# Altium integrated library ALTIUM-WCAP-PSHP-rev17b.IntLib: 54 symbols
Pins are listed as number, name and electrical type; pins without a type are passive.

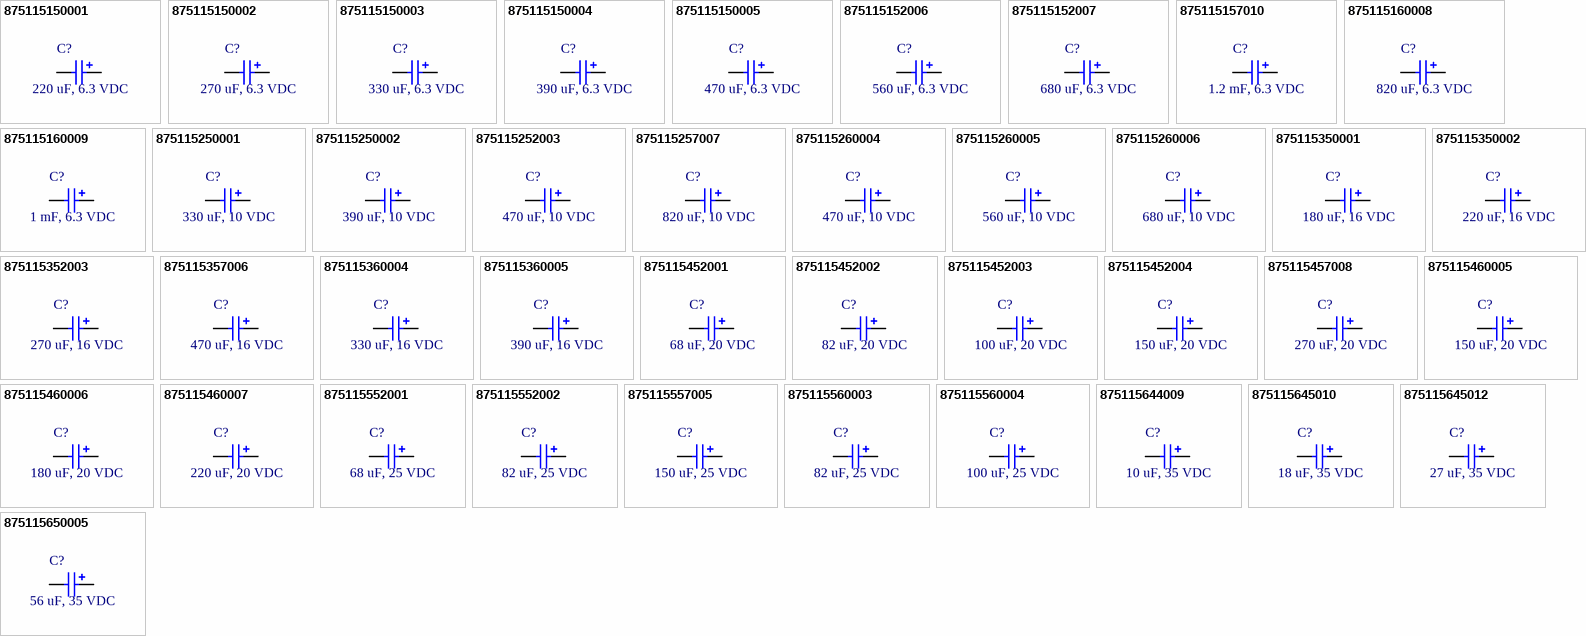
[diagram p0: symbols 875115150001 to 875115650005]

## 875115150001
designator C?, comment 220 uF, 6.3 VDC
WCAP-PSHP Aluminum Polymer Capacitors, D8mm x L7.7mm, 220 uF, 6.3 VDC; Part Number: 875115150001; Rated Voltage: 6.3 VDC; Capacitance: 220 uF; ComponentLink1Description: Manufacturer; ComponentLink1URL: http://www.we-online.de; ComponentLink2Description: Datasheet; ComponentLink2URL: http://katalog.we-online.de/pbs/datasheet/875115150001.pdf; Published Date: Dec. 2017; Publisher: Wurth Elektronik; Size: D8mm x L7.7mm; Life Cycle: 2000 h; Operating Temperature: -55 to +105 degC
footprint WCAP-PSHP_D8mm x L7.7mm
pins: 1 P, 2 N

## 875115150002
designator C?, comment 270 uF, 6.3 VDC
WCAP-PSHP Aluminum Polymer Capacitors, D8mm x L7.7mm, 270 uF, 6.3 VDC; Part Number: 875115150002; Rated Voltage: 6.3 VDC; Capacitance: 270 uF; ComponentLink1Description: Manufacturer; ComponentLink1URL: http://www.we-online.de; ComponentLink2Description: Datasheet; ComponentLink2URL: http://katalog.we-online.de/pbs/datasheet/875115150002.pdf; Published Date: Dec. 2017; Publisher: Wurth Elektronik; Size: D8mm x L7.7mm; Life Cycle: 2000 h; Operating Temperature: -55 to +105 degC
footprint WCAP-PSHP_D8mm x L7.7mm
pins: 1 P, 2 N

## 875115150003
designator C?, comment 330 uF, 6.3 VDC
WCAP-PSHP Aluminum Polymer Capacitors, D8mm x L7.7mm, 330 uF, 6.3 VDC; Part Number: 875115150003; Rated Voltage: 6.3 VDC; Capacitance: 330 uF; ComponentLink1Description: Manufacturer; ComponentLink1URL: http://www.we-online.de; ComponentLink2Description: Datasheet; ComponentLink2URL: http://katalog.we-online.de/pbs/datasheet/875115150003.pdf; Published Date: Dec. 2017; Publisher: Wurth Elektronik; Size: D8mm x L7.7mm; Life Cycle: 2000 h; Operating Temperature: -55 to +105 degC
footprint WCAP-PSHP_D8mm x L7.7mm
pins: 1 P, 2 N

## 875115150004
designator C?, comment 390 uF, 6.3 VDC
WCAP-PSHP Aluminum Polymer Capacitors, D8mm x L7.7mm, 390 uF, 6.3 VDC; Part Number: 875115150004; Rated Voltage: 6.3 VDC; Capacitance: 390 uF; ComponentLink1Description: Manufacturer; ComponentLink1URL: http://www.we-online.de; ComponentLink2Description: Datasheet; ComponentLink2URL: http://katalog.we-online.de/pbs/datasheet/875115150004.pdf; Published Date: Dec. 2017; Publisher: Wurth Elektronik; Size: D8mm x L7.7mm; Life Cycle: 2000 h; Operating Temperature: -55 to +105 degC
footprint WCAP-PSHP_D8mm x L7.7mm
pins: 1 P, 2 N

## 875115150005
designator C?, comment 470 uF, 6.3 VDC
WCAP-PSHP Aluminum Polymer Capacitors, D8mm x L7.7mm, 470 uF, 6.3 VDC; Part Number: 875115150005; Rated Voltage: 6.3 VDC; Capacitance: 470 uF; ComponentLink1Description: Manufacturer; ComponentLink1URL: http://www.we-online.de; ComponentLink2Description: Datasheet; ComponentLink2URL: http://katalog.we-online.de/pbs/datasheet/875115150005.pdf; Published Date: Dec. 2017; Publisher: Wurth Elektronik; Size: D8mm x L7.7mm; Life Cycle: 2000 h; Operating Temperature: -55 to +105 degC
footprint WCAP-PSHP_D8mm x L7.7mm
pins: 1 P, 2 N

## 875115152006
designator C?, comment 560 uF, 6.3 VDC
WCAP-PSHP Aluminum Polymer Capacitors, D8mm x L8.7mm, 560 uF, 6.3 VDC; Part Number: 875115152006; Rated Voltage: 6.3 VDC; Capacitance: 560 uF; ComponentLink1Description: Manufacturer; ComponentLink1URL: http://www.we-online.de; ComponentLink2Description: Datasheet; ComponentLink2URL: http://katalog.we-online.de/pbs/datasheet/875115152006.pdf; Published Date: Dec. 2017; Publisher: Wurth Elektronik; Size: D8mm x L8.7mm; Life Cycle: 2000 h; Operating Temperature: -55 to +105 degC
footprint WCAP-PSHP_D8mm x L8.7mm
pins: 1 P, 2 N

## 875115152007
designator C?, comment 680 uF, 6.3 VDC
WCAP-PSHP Aluminum Polymer Capacitors, D8mm x L8.7mm, 680 uF, 6.3 VDC; Part Number: 875115152007; Rated Voltage: 6.3 VDC; Capacitance: 680 uF; ComponentLink1Description: Manufacturer; ComponentLink1URL: http://www.we-online.de; ComponentLink2Description: Datasheet; ComponentLink2URL: http://katalog.we-online.de/pbs/datasheet/875115152007.pdf; Published Date: Dec. 2017; Publisher: Wurth Elektronik; Size: D8mm x L8.7mm; Life Cycle: 2000 h; Operating Temperature: -55 to +105 degC
footprint WCAP-PSHP_D8mm x L8.7mm
pins: 1 P, 2 N

## 875115157010
designator C?, comment 1.2 mF, 6.3 VDC
WCAP-PSHP Aluminum Polymer Capacitors, D10mm x L10.5mm, 1.2 mF, 6.3 VDC; Part Number: 875115157010; Rated Voltage: 6.3 VDC; Capacitance: 1.2 mF; ComponentLink1Description: Manufacturer; ComponentLink1URL: http://www.we-online.de; ComponentLink2Description: Datasheet; ComponentLink2URL: http://katalog.we-online.de/pbs/datasheet/875115157010.pdf; Published Date: Dec. 2017; Publisher: Wurth Elektronik; Size: D10mm x L10.5mm; Life Cycle: 2000 h; Operating Temperature: -55 to +105 degC
footprint WCAP-PSHP_D10mm x L10.5mm
pins: 1 P, 2 N

## 875115160008
designator C?, comment 820 uF, 6.3 VDC
WCAP-PSHP Aluminum Polymer Capacitors, D10mm x L8.7mm, 820 uF, 6.3 VDC; Part Number: 875115160008; Rated Voltage: 6.3 VDC; Capacitance: 820 uF; ComponentLink1Description: Manufacturer; ComponentLink1URL: http://www.we-online.de; ComponentLink2Description: Datasheet; ComponentLink2URL: http://katalog.we-online.de/pbs/datasheet/875115160008.pdf; Published Date: Dec. 2017; Publisher: Wurth Elektronik; Size: D10mm x L8.7mm; Life Cycle: 2000 h; Operating Temperature: -55 to +105 degC
footprint WCAP-PSHP_D10mm x L8.7mm
pins: 1 P, 2 N

## 875115160009
designator C?, comment 1 mF, 6.3 VDC
WCAP-PSHP Aluminum Polymer Capacitors, D10mm x L8.7mm, 1 mF, 6.3 VDC; Part Number: 875115160009; Rated Voltage: 6.3 VDC; Capacitance: 1 mF; ComponentLink1Description: Manufacturer; ComponentLink1URL: http://www.we-online.de; ComponentLink2Description: Datasheet; ComponentLink2URL: http://katalog.we-online.de/pbs/datasheet/875115160009.pdf; Published Date: Dec. 2017; Publisher: Wurth Elektronik; Size: D10mm x L8.7mm; Life Cycle: 2000 h; Operating Temperature: -55 to +105 degC
footprint WCAP-PSHP_D10mm x L8.7mm
pins: 1 P, 2 N

## 875115250001
designator C?, comment 330 uF, 10 VDC
WCAP-PSHP Aluminum Polymer Capacitors, D8mm x L7.7mm, 330 uF, 10 VDC; Part Number: 875115250001; Rated Voltage: 10 VDC; Capacitance: 330 uF; ComponentLink1Description: Manufacturer; ComponentLink1URL: http://www.we-online.de; ComponentLink2Description: Datasheet; ComponentLink2URL: http://katalog.we-online.de/pbs/datasheet/875115250001.pdf; Published Date: Dec. 2017; Publisher: Wurth Elektronik; Size: D8mm x L7.7mm; Life Cycle: 2000 h; Operating Temperature: -55 to +105 degC
footprint WCAP-PSHP_D8mm x L7.7mm
pins: 1 P, 2 N

## 875115250002
designator C?, comment 390 uF, 10 VDC
WCAP-PSHP Aluminum Polymer Capacitors, D8mm x L7.7mm, 390 uF, 10 VDC; Part Number: 875115250002; Rated Voltage: 10 VDC; Capacitance: 390 uF; ComponentLink1Description: Manufacturer; ComponentLink1URL: http://www.we-online.de; ComponentLink2Description: Datasheet; ComponentLink2URL: http://katalog.we-online.de/pbs/datasheet/875115250002.pdf; Published Date: Dec. 2017; Publisher: Wurth Elektronik; Size: D8mm x L7.7mm; Life Cycle: 2000 h; Operating Temperature: -55 to +105 degC
footprint WCAP-PSHP_D8mm x L7.7mm
pins: 1 P, 2 N

## 875115252003
designator C?, comment 470 uF, 10 VDC
WCAP-PSHP Aluminum Polymer Capacitors, D8mm x L8.7mm, 470 uF, 10 VDC; Part Number: 875115252003; Rated Voltage: 10 VDC; Capacitance: 470 uF; ComponentLink1Description: Manufacturer; ComponentLink1URL: http://www.we-online.de; ComponentLink2Description: Datasheet; ComponentLink2URL: http://katalog.we-online.de/pbs/datasheet/875115252003.pdf; Published Date: Dec. 2017; Publisher: Wurth Elektronik; Size: D8mm x L8.7mm; Life Cycle: 2000 h; Operating Temperature: -55 to +105 degC
footprint WCAP-PSHP_D8mm x L8.7mm
pins: 1 P, 2 N

## 875115257007
designator C?, comment 820 uF, 10 VDC
WCAP-PSHP Aluminum Polymer Capacitors, D10mm x L10.5mm, 820 uF, 10 VDC; Part Number: 875115257007; Rated Voltage: 10 VDC; Capacitance: 820 uF; ComponentLink1Description: Manufacturer; ComponentLink1URL: http://www.we-online.de; ComponentLink2Description: Datasheet; ComponentLink2URL: http://katalog.we-online.de/pbs/datasheet/875115257007.pdf; Published Date: Dec. 2017; Publisher: Wurth Elektronik; Size: D10mm x L10.5mm; Life Cycle: 2000 h; Operating Temperature: -55 to +105 degC
footprint WCAP-PSHP_D10mm x L10.5mm
pins: 1 P, 2 N

## 875115260004
designator C?, comment 470 uF, 10 VDC
WCAP-PSHP Aluminum Polymer Capacitors, D10mm x L8.7mm, 470 uF, 10 VDC; Part Number: 875115260004; Rated Voltage: 10 VDC; Capacitance: 470 uF; ComponentLink1Description: Manufacturer; ComponentLink1URL: http://www.we-online.de; ComponentLink2Description: Datasheet; ComponentLink2URL: http://katalog.we-online.de/pbs/datasheet/875115260004.pdf; Published Date: Dec. 2017; Publisher: Wurth Elektronik; Size: D10mm x L8.7mm; Life Cycle: 2000 h; Operating Temperature: -55 to +105 degC
footprint WCAP-PSHP_D10mm x L8.7mm
pins: 1 P, 2 N

## 875115260005
designator C?, comment 560 uF, 10 VDC
WCAP-PSHP Aluminum Polymer Capacitors, D10mm x L8.7mm, 560 uF, 10 VDC; Part Number: 875115260005; Rated Voltage: 10 VDC; Capacitance: 560 uF; ComponentLink1Description: Manufacturer; ComponentLink1URL: http://www.we-online.de; ComponentLink2Description: Datasheet; ComponentLink2URL: http://katalog.we-online.de/pbs/datasheet/875115260005.pdf; Published Date: Dec. 2017; Publisher: Wurth Elektronik; Size: D10mm x L8.7mm; Life Cycle: 2000 h; Operating Temperature: -55 to +105 degC
footprint WCAP-PSHP_D10mm x L8.7mm
pins: 1 P, 2 N

## 875115260006
designator C?, comment 680 uF, 10 VDC
WCAP-PSHP Aluminum Polymer Capacitors, D10mm x L8.7mm, 680 uF, 10 VDC; Part Number: 875115260006; Rated Voltage: 10 VDC; Capacitance: 680 uF; ComponentLink1Description: Manufacturer; ComponentLink1URL: http://www.we-online.de; ComponentLink2Description: Datasheet; ComponentLink2URL: http://katalog.we-online.de/pbs/datasheet/875115260006.pdf; Published Date: Dec. 2017; Publisher: Wurth Elektronik; Size: D10mm x L8.7mm; Life Cycle: 2000 h; Operating Temperature: -55 to +105 degC
footprint WCAP-PSHP_D10mm x L8.7mm
pins: 1 P, 2 N

## 875115350001
designator C?, comment 180 uF, 16 VDC
WCAP-PSHP Aluminum Polymer Capacitors, D8mm x L7.7mm, 180 uF, 16 VDC; Part Number: 875115350001; Rated Voltage: 16 VDC; Capacitance: 180 uF; ComponentLink1Description: Manufacturer; ComponentLink1URL: http://www.we-online.de; ComponentLink2Description: Datasheet; ComponentLink2URL: http://katalog.we-online.de/pbs/datasheet/875115350001.pdf; Published Date: Dec. 2017; Publisher: Wurth Elektronik; Size: D8mm x L7.7mm; Life Cycle: 2000 h; Operating Temperature: -55 to +105 degC
footprint WCAP-PSHP_D8mm x L7.7mm
pins: 1 P, 2 N

## 875115350002
designator C?, comment 220 uF, 16 VDC
WCAP-PSHP Aluminum Polymer Capacitors, D8mm x L7.7mm, 220 uF, 16 VDC; Part Number: 875115350002; Rated Voltage: 16 VDC; Capacitance: 220 uF; ComponentLink1Description: Manufacturer; ComponentLink1URL: http://www.we-online.de; ComponentLink2Description: Datasheet; ComponentLink2URL: http://katalog.we-online.de/pbs/datasheet/875115350002.pdf; Published Date: Dec. 2017; Publisher: Wurth Elektronik; Size: D8mm x L7.7mm; Life Cycle: 2000 h; Operating Temperature: -55 to +105 degC
footprint WCAP-PSHP_D8mm x L7.7mm
pins: 1 P, 2 N

## 875115352003
designator C?, comment 270 uF, 16 VDC
WCAP-PSHP Aluminum Polymer Capacitors, D8mm x L8.7mm, 270 uF, 16 VDC; Part Number: 875115352003; Rated Voltage: 16 VDC; Capacitance: 270 uF; ComponentLink1Description: Manufacturer; ComponentLink1URL: http://www.we-online.de; ComponentLink2Description: Datasheet; ComponentLink2URL: http://katalog.we-online.de/pbs/datasheet/875115352003.pdf; Published Date: Dec. 2017; Publisher: Wurth Elektronik; Size: D8mm x L8.7mm; Life Cycle: 2000 h; Operating Temperature: -55 to +105 degC
footprint WCAP-PSHP_D8mm x L8.7mm
pins: 1 P, 2 N

## 875115357006
designator C?, comment 470 uF, 16 VDC
WCAP-PSHP Aluminum Polymer Capacitors, D10mm x L10.5mm, 470 uF, 16 VDC; Part Number: 875115357006; Rated Voltage: 16 VDC; Capacitance: 470 uF; ComponentLink1Description: Manufacturer; ComponentLink1URL: http://www.we-online.de; ComponentLink2Description: Datasheet; ComponentLink2URL: http://katalog.we-online.de/pbs/datasheet/875115357006.pdf; Published Date: Dec. 2017; Publisher: Wurth Elektronik; Size: D10mm x L10.5mm; Life Cycle: 2000 h; Operating Temperature: -55 to +105 degC
footprint WCAP-PSHP_D10mm x L10.5mm
pins: 1 P, 2 N

## 875115360004
designator C?, comment 330 uF, 16 VDC
WCAP-PSHP Aluminum Polymer Capacitors, D10mm x L8.7mm, 330 uF, 16 VDC; Part Number: 875115360004; Rated Voltage: 16 VDC; Capacitance: 330 uF; ComponentLink1Description: Manufacturer; ComponentLink1URL: http://www.we-online.de; ComponentLink2Description: Datasheet; ComponentLink2URL: http://katalog.we-online.de/pbs/datasheet/875115360004.pdf; Published Date: Dec. 2017; Publisher: Wurth Elektronik; Size: D10mm x L8.7mm; Life Cycle: 2000 h; Operating Temperature: -55 to +105 degC
footprint WCAP-PSHP_D10mm x L8.7mm
pins: 1 P, 2 N

## 875115360005
designator C?, comment 390 uF, 16 VDC
WCAP-PSHP Aluminum Polymer Capacitors, D10mm x L8.7mm, 390 uF, 16 VDC; Part Number: 875115360005; Rated Voltage: 16 VDC; Capacitance: 390 uF; ComponentLink1Description: Manufacturer; ComponentLink1URL: http://www.we-online.de; ComponentLink2Description: Datasheet; ComponentLink2URL: http://katalog.we-online.de/pbs/datasheet/875115360005.pdf; Published Date: Dec. 2017; Publisher: Wurth Elektronik; Size: D10mm x L8.7mm; Life Cycle: 2000 h; Operating Temperature: -55 to +105 degC
footprint WCAP-PSHP_D10mm x L8.7mm
pins: 1 P, 2 N

## 875115452001
designator C?, comment 68 uF, 20 VDC
WCAP-PSHP Aluminum Polymer Capacitors, D8mm x L8.7mm, 68 uF, 20 VDC; Part Number: 875115452001; Rated Voltage: 20 VDC; Capacitance: 68 uF; ComponentLink1Description: Manufacturer; ComponentLink1URL: http://www.we-online.de; ComponentLink2Description: Datasheet; ComponentLink2URL: http://katalog.we-online.de/pbs/datasheet/875115452001.pdf; Published Date: Dec. 2017; Publisher: Wurth Elektronik; Size: D8mm x L8.7mm; Life Cycle: 2000 h; Operating Temperature: -55 to +105 degC
footprint WCAP-PSHP_D8mm x L8.7mm
pins: 1 P, 2 N

## 875115452002
designator C?, comment 82 uF, 20 VDC
WCAP-PSHP Aluminum Polymer Capacitors, D8mm x L8.7mm, 82 uF, 20 VDC; Part Number: 875115452002; Rated Voltage: 20 VDC; Capacitance: 82 uF; ComponentLink1Description: Manufacturer; ComponentLink1URL: http://www.we-online.de; ComponentLink2Description: Datasheet; ComponentLink2URL: http://katalog.we-online.de/pbs/datasheet/875115452002.pdf; Published Date: Dec. 2017; Publisher: Wurth Elektronik; Size: D8mm x L8.7mm; Life Cycle: 2000 h; Operating Temperature: -55 to +105 degC
footprint WCAP-PSHP_D8mm x L8.7mm
pins: 1 P, 2 N

## 875115452003
designator C?, comment 100 uF, 20 VDC
WCAP-PSHP Aluminum Polymer Capacitors, D8mm x L8.7mm, 100 uF, 20 VDC; Part Number: 875115452003; Rated Voltage: 20 VDC; Capacitance: 100 uF; ComponentLink1Description: Manufacturer; ComponentLink1URL: http://www.we-online.de; ComponentLink2Description: Datasheet; ComponentLink2URL: http://katalog.we-online.de/pbs/datasheet/875115452003.pdf; Published Date: Dec. 2017; Publisher: Wurth Elektronik; Size: D8mm x L8.7mm; Life Cycle: 2000 h; Operating Temperature: -55 to +105 degC
footprint WCAP-PSHP_D8mm x L8.7mm
pins: 1 P, 2 N

## 875115452004
designator C?, comment 150 uF, 20 VDC
WCAP-PSHP Aluminum Polymer Capacitors, D8mm x L8.7mm, 150 uF, 20 VDC; Part Number: 875115452004; Rated Voltage: 20 VDC; Capacitance: 150 uF; ComponentLink1Description: Manufacturer; ComponentLink1URL: http://www.we-online.de; ComponentLink2Description: Datasheet; ComponentLink2URL: http://katalog.we-online.de/pbs/datasheet/875115452004.pdf; Published Date: Dec. 2017; Publisher: Wurth Elektronik; Size: D8mm x L8.7mm; Life Cycle: 2000 h; Operating Temperature: -55 to +105 degC
footprint WCAP-PSHP_D8mm x L8.7mm
pins: 1 P, 2 N

## 875115457008
designator C?, comment 270 uF, 20 VDC
WCAP-PSHP Aluminum Polymer Capacitors, D10mm x L10.5mm, 270 uF, 20 VDC; Part Number: 875115457008; Rated Voltage: 20 VDC; Capacitance: 270 uF; ComponentLink1Description: Manufacturer; ComponentLink1URL: http://www.we-online.de; ComponentLink2Description: Datasheet; ComponentLink2URL: http://katalog.we-online.de/pbs/datasheet/875115457008.pdf; Published Date: Dec. 2017; Publisher: Wurth Elektronik; Size: D10mm x L10.5mm; Life Cycle: 2000 h; Operating Temperature: -55 to +105 degC
footprint WCAP-PSHP_D10mm x L10.5mm
pins: 1 P, 2 N

## 875115460005
designator C?, comment 150 uF, 20 VDC
WCAP-PSHP Aluminum Polymer Capacitors, D10mm x L8.7mm, 150 uF, 20 VDC; Part Number: 875115460005; Rated Voltage: 20 VDC; Capacitance: 150 uF; ComponentLink1Description: Manufacturer; ComponentLink1URL: http://www.we-online.de; ComponentLink2Description: Datasheet; ComponentLink2URL: http://katalog.we-online.de/pbs/datasheet/875115460005.pdf; Published Date: Dec. 2017; Publisher: Wurth Elektronik; Size: D10mm x L8.7mm; Life Cycle: 2000 h; Operating Temperature: -55 to +105 degC
footprint WCAP-PSHP_D10mm x L8.7mm
pins: 1 P, 2 N

## 875115460006
designator C?, comment 180 uF, 20 VDC
WCAP-PSHP Aluminum Polymer Capacitors, D10mm x L8.7mm, 180 uF, 20 VDC; Part Number: 875115460006; Rated Voltage: 20 VDC; Capacitance: 180 uF; ComponentLink1Description: Manufacturer; ComponentLink1URL: http://www.we-online.de; ComponentLink2Description: Datasheet; ComponentLink2URL: http://katalog.we-online.de/pbs/datasheet/875115460006.pdf; Published Date: Dec. 2017; Publisher: Wurth Elektronik; Size: D10mm x L8.7mm; Life Cycle: 2000 h; Operating Temperature: -55 to +105 degC
footprint WCAP-PSHP_D10mm x L8.7mm
pins: 1 P, 2 N

## 875115460007
designator C?, comment 220 uF, 20 VDC
WCAP-PSHP Aluminum Polymer Capacitors, D10mm x L8.7mm, 220 uF, 20 VDC; Part Number: 875115460007; Rated Voltage: 20 VDC; Capacitance: 220 uF; ComponentLink1Description: Manufacturer; ComponentLink1URL: http://www.we-online.de; ComponentLink2Description: Datasheet; ComponentLink2URL: http://katalog.we-online.de/pbs/datasheet/875115460007.pdf; Published Date: Dec. 2017; Publisher: Wurth Elektronik; Size: D10mm x L8.7mm; Life Cycle: 2000 h; Operating Temperature: -55 to +105 degC
footprint WCAP-PSHP_D10mm x L8.7mm
pins: 1 P, 2 N

## 875115552001
designator C?, comment 68 uF, 25 VDC
WCAP-PSHP Aluminum Polymer Capacitors, D8mm x L8.7mm, 68 uF, 25 VDC; Part Number: 875115552001; Rated Voltage: 25 VDC; Capacitance: 68 uF; ComponentLink1Description: Manufacturer; ComponentLink1URL: http://www.we-online.de; ComponentLink2Description: Datasheet; ComponentLink2URL: http://katalog.we-online.de/pbs/datasheet/875115552001.pdf; Published Date: Dec. 2017; Publisher: Wurth Elektronik; Size: D8mm x L8.7mm; Life Cycle: 2000 h; Operating Temperature: -55 to +105 degC
footprint WCAP-PSHP_D8mm x L8.7mm
pins: 1 P, 2 N

## 875115552002
designator C?, comment 82 uF, 25 VDC
WCAP-PSHP Aluminum Polymer Capacitors, D8mm x L8.7mm, 82 uF, 25 VDC; Part Number: 875115552002; Rated Voltage: 25 VDC; Capacitance: 82 uF; ComponentLink1Description: Manufacturer; ComponentLink1URL: http://www.we-online.de; ComponentLink2Description: Datasheet; ComponentLink2URL: http://katalog.we-online.de/pbs/datasheet/875115552002.pdf; Published Date: Dec. 2017; Publisher: Wurth Elektronik; Size: D8mm x L8.7mm; Life Cycle: 2000 h; Operating Temperature: -55 to +105 degC
footprint WCAP-PSHP_D8mm x L8.7mm
pins: 1 P, 2 N

## 875115557005
designator C?, comment 150 uF, 25 VDC
WCAP-PSHP Aluminum Polymer Capacitors, D10mm x L10.5mm, 150 uF, 25 VDC; Part Number: 875115557005; Rated Voltage: 25 VDC; Capacitance: 150 uF; ComponentLink1Description: Manufacturer; ComponentLink1URL: http://www.we-online.de; ComponentLink2Description: Datasheet; ComponentLink2URL: http://katalog.we-online.de/pbs/datasheet/875115557005.pdf; Published Date: Dec. 2017; Publisher: Wurth Elektronik; Size: D10mm x L10.5mm; Life Cycle: 2000 h; Operating Temperature: -55 to +105 degC
footprint WCAP-PSHP_D10mm x L10.5mm
pins: 1 P, 2 N

## 875115560003
designator C?, comment 82 uF, 25 VDC
WCAP-PSHP Aluminum Polymer Capacitors, D10mm x L8.7mm, 82 uF, 25 VDC; Part Number: 875115560003; Rated Voltage: 25 VDC; Capacitance: 82 uF; ComponentLink1Description: Manufacturer; ComponentLink1URL: http://www.we-online.de; ComponentLink2Description: Datasheet; ComponentLink2URL: http://katalog.we-online.de/pbs/datasheet/875115560003.pdf; Published Date: Dec. 2017; Publisher: Wurth Elektronik; Size: D10mm x L8.7mm; Life Cycle: 2000 h; Operating Temperature: -55 to +105 degC
footprint WCAP-PSHP_D10mm x L8.7mm
pins: 1 P, 2 N

## 875115560004
designator C?, comment 100 uF, 25 VDC
WCAP-PSHP Aluminum Polymer Capacitors, D10mm x L8.7mm, 100 uF, 25 VDC; Part Number: 875115560004; Rated Voltage: 25 VDC; Capacitance: 100 uF; ComponentLink1Description: Manufacturer; ComponentLink1URL: http://www.we-online.de; ComponentLink2Description: Datasheet; ComponentLink2URL: http://katalog.we-online.de/pbs/datasheet/875115560004.pdf; Published Date: Dec. 2017; Publisher: Wurth Elektronik; Size: D10mm x L8.7mm; Life Cycle: 2000 h; Operating Temperature: -55 to +105 degC
footprint WCAP-PSHP_D10mm x L8.7mm
pins: 1 P, 2 N

## 875115644009
designator C?, comment 10 uF, 35 VDC
WCAP-PSHP Aluminum Polymer Capacitors, D6.3mm x L5.8mm, 10 uF, 35 VDC; Part Number: 875115644009; Rated Voltage: 35 VDC; Capacitance: 10 uF; ComponentLink1Description: Manufacturer; ComponentLink1URL: http://www.we-online.de; ComponentLink2Description: Datasheet; ComponentLink2URL: http://katalog.we-online.de/pbs/datasheet/875115644009.pdf; Published Date: Dec. 2017; Publisher: Wurth Elektronik; Size: D6.3mm x L5.8mm; Life Cycle: 5000 h; Operating Temperature: -55 to +105 degC
footprint WCAP-PSHP_D6.3mm x L5.8mm
pins: 1 P, 2 N

## 875115645010
designator C?, comment 18 uF, 35 VDC
WCAP-PSHP Aluminum Polymer Capacitors, D6.3mm x L7.7mm, 18 uF, 35 VDC; Part Number: 875115645010; Rated Voltage: 35 VDC; Capacitance: 18 uF; ComponentLink1Description: Manufacturer; ComponentLink1URL: http://www.we-online.de; ComponentLink2Description: Datasheet; ComponentLink2URL: http://katalog.we-online.de/pbs/datasheet/875115645010.pdf; Published Date: Dec. 2017; Publisher: Wurth Elektronik; Size: D6.3mm x L7.7mm; Life Cycle: 5000 h; Operating Temperature: -55 to +105 degC
footprint WCAP-PSHP_D6.3mm x L7.7mm
pins: 1 P, 2 N

## 875115645012
designator C?, comment 27 uF, 35 VDC
WCAP-PSHP Aluminum Polymer Capacitors, D6.3mm x L7.7mm, 27 uF, 35 VDC; Part Number: 875115645012; Rated Voltage: 35 VDC; Capacitance: 27 uF; ComponentLink1Description: Manufacturer; ComponentLink1URL: http://www.we-online.de; ComponentLink2Description: Datasheet; ComponentLink2URL: http://katalog.we-online.de/pbs/datasheet/875115645012.pdf; Published Date: Dec. 2017; Publisher: Wurth Elektronik; Size: D6.3mm x L7.7mm; Life Cycle: 5000 h; Operating Temperature: -55 to +105 degC
footprint WCAP-PSHP_D6.3mm x L7.7mm
pins: 1 P, 2 N

## 875115650005
designator C?, comment 56 uF, 35 VDC
WCAP-PSHP Aluminum Polymer Capacitors, D8mm x L7.7mm, 56 uF, 35 VDC; Part Number: 875115650005; Rated Voltage: 35 VDC; Capacitance: 56 uF; ComponentLink1Description: Manufacturer; ComponentLink1URL: http://www.we-online.de; ComponentLink2Description: Datasheet; ComponentLink2URL: http://katalog.we-online.de/pbs/datasheet/875115650005.pdf; Published Date: Dec. 2017; Publisher: Wurth Elektronik; Size: D8mm x L7.7mm; Life Cycle: 2000 h; Operating Temperature: -55 to +105 degC
footprint WCAP-PSHP_D8mm x L7.7mm
pins: 1 P, 2 N

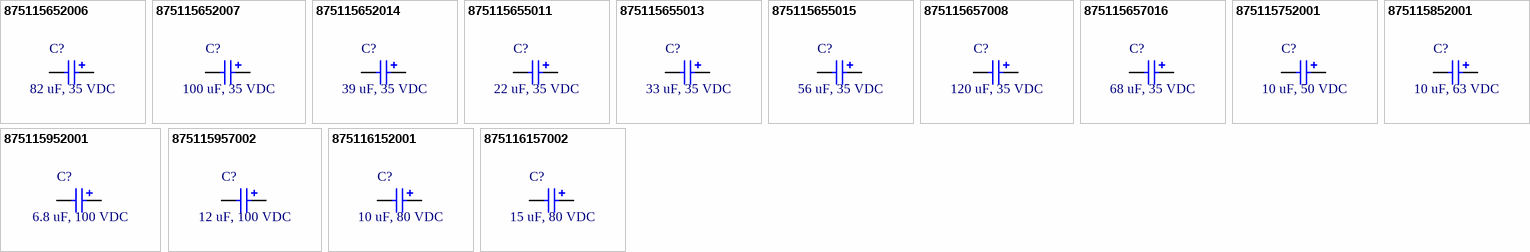
[diagram p1: symbols 875115652006 to 875116157002]

## 875115652006
designator C?, comment 82 uF, 35 VDC
WCAP-PSHP Aluminum Polymer Capacitors, D8mm x L8.7mm, 82 uF, 35 VDC; Part Number: 875115652006; Rated Voltage: 35 VDC; Capacitance: 82 uF; ComponentLink1Description: Manufacturer; ComponentLink1URL: http://www.we-online.de; ComponentLink2Description: Datasheet; ComponentLink2URL: http://katalog.we-online.de/pbs/datasheet/875115652006.pdf; Published Date: Dec. 2017; Publisher: Wurth Elektronik; Size: D8mm x L8.7mm; Life Cycle: 2000 h; Operating Temperature: -55 to +105 degC
footprint WCAP-PSHP_D8mm x L8.7mm
pins: 1 P, 2 N

## 875115652007
designator C?, comment 100 uF, 35 VDC
WCAP-PSHP Aluminum Polymer Capacitors, D8mm x L8.7mm, 100 uF, 35 VDC; Part Number: 875115652007; Rated Voltage: 35 VDC; Capacitance: 100 uF; ComponentLink1Description: Manufacturer; ComponentLink1URL: http://www.we-online.de; ComponentLink2Description: Datasheet; ComponentLink2URL: http://katalog.we-online.de/pbs/datasheet/875115652007.pdf; Published Date: Dec. 2017; Publisher: Wurth Elektronik; Size: D8mm x L8.7mm; Life Cycle: 2000 h; Operating Temperature: -55 to +105 degC
footprint WCAP-PSHP_D8mm x L8.7mm
pins: 1 P, 2 N

## 875115652014
designator C?, comment 39 uF, 35 VDC
WCAP-PSHP Aluminum Polymer Capacitors, D8mm x L8.7mm, 39 uF, 35 VDC; Part Number: 875115652014; Rated Voltage: 35 VDC; Capacitance: 39 uF; ComponentLink1Description: Manufacturer; ComponentLink1URL: http://www.we-online.de; ComponentLink2Description: Datasheet; ComponentLink2URL: http://katalog.we-online.de/pbs/datasheet/875115652014.pdf; Published Date: Dec. 2017; Publisher: Wurth Elektronik; Size: D8mm x L8.7mm; Life Cycle: 5000 h; Operating Temperature: -55 to +105 degC
footprint WCAP-PSHP_D8mm x L8.7mm
pins: 1 P, 2 N

## 875115655011
designator C?, comment 22 uF, 35 VDC
WCAP-PSHP Aluminum Polymer Capacitors, D8mm x L11.7mm, 22 uF, 35 VDC; Part Number: 875115655011; Rated Voltage: 35 VDC; Capacitance: 22 uF; ComponentLink1Description: Manufacturer; ComponentLink1URL: http://www.we-online.de; ComponentLink2Description: Datasheet; ComponentLink2URL: http://katalog.we-online.de/pbs/datasheet/875115655011.pdf; Published Date: Dec. 2017; Publisher: Wurth Elektronik; Size: D8mm x L11.7mm; Life Cycle: 5000 h; Operating Temperature: -55 to +105 degC
footprint WCAP-PSHP_D8mm x L11.7mm
pins: 1 P, 2 N

## 875115655013
designator C?, comment 33 uF, 35 VDC
WCAP-PSHP Aluminum Polymer Capacitors, D8mm x L11.7mm, 33 uF, 35 VDC; Part Number: 875115655013; Rated Voltage: 35 VDC; Capacitance: 33 uF; ComponentLink1Description: Manufacturer; ComponentLink1URL: http://www.we-online.de; ComponentLink2Description: Datasheet; ComponentLink2URL: http://katalog.we-online.de/pbs/datasheet/875115655013.pdf; Published Date: Dec. 2017; Publisher: Wurth Elektronik; Size: D8mm x L11.7mm; Life Cycle: 5000 h; Operating Temperature: -55 to +105 degC
footprint WCAP-PSHP_D8mm x L11.7mm
pins: 1 P, 2 N

## 875115655015
designator C?, comment 56 uF, 35 VDC
WCAP-PSHP Aluminum Polymer Capacitors, D8mm x L11.7mm, 56 uF, 35 VDC; Part Number: 875115655015; Rated Voltage: 35 VDC; Capacitance: 56 uF; ComponentLink1Description: Manufacturer; ComponentLink1URL: http://www.we-online.de; ComponentLink2Description: Datasheet; ComponentLink2URL: http://katalog.we-online.de/pbs/datasheet/875115655015.pdf; Published Date: Dec. 2017; Publisher: Wurth Elektronik; Size: D8mm x L11.7mm; Life Cycle: 5000 h; Operating Temperature: -55 to +105 degC
footprint WCAP-PSHP_D8mm x L11.7mm
pins: 1 P, 2 N

## 875115657008
designator C?, comment 120 uF, 35 VDC
WCAP-PSHP Aluminum Polymer Capacitors, D10mm x L10.5mm, 120 uF, 35 VDC; Part Number: 875115657008; Rated Voltage: 35 VDC; Capacitance: 120 uF; ComponentLink1Description: Manufacturer; ComponentLink1URL: http://www.we-online.de; ComponentLink2Description: Datasheet; ComponentLink2URL: http://katalog.we-online.de/pbs/datasheet/875115657008.pdf; Published Date: Dec. 2017; Publisher: Wurth Elektronik; Size: D10mm x L10.5mm; Life Cycle: 2000 h; Operating Temperature: -55 to +105 degC
footprint WCAP-PSHP_D10mm x L10.5mm
pins: 1 P, 2 N

## 875115657016
designator C?, comment 68 uF, 35 VDC
WCAP-PSHP Aluminum Polymer Capacitors, D10mm x L10.5mm, 68 uF, 35 VDC; Part Number: 875115657016; Rated Voltage: 35 VDC; Capacitance: 68 uF; ComponentLink1Description: Manufacturer; ComponentLink1URL: http://www.we-online.de; ComponentLink2Description: Datasheet; ComponentLink2URL: http://katalog.we-online.de/pbs/datasheet/875115657016.pdf; Published Date: Dec. 2017; Publisher: Wurth Elektronik; Size: D10mm x L10.5mm; Life Cycle: 5000 h; Operating Temperature: -55 to +105 degC
footprint WCAP-PSHP_D10mm x L10.5mm
pins: 1 P, 2 N

## 875115752001
designator C?, comment 10 uF, 50 VDC
WCAP-PSHP Aluminum Polymer Capacitors, D8mm x L8.7mm, 10 uF, 50 VDC; Part Number: 875115752001; Rated Voltage: 50 VDC; Capacitance: 10 uF; ComponentLink1Description: Manufacturer; ComponentLink1URL: http://www.we-online.de; ComponentLink2Description: Datasheet; ComponentLink2URL: http://katalog.we-online.de/pbs/datasheet/875115752001.pdf; Published Date: Dec. 2017; Publisher: Wurth Elektronik; Size: D8mm x L8.7mm; Life Cycle: 2000 h; Operating Temperature: -55 to +105 degC
footprint WCAP-PSHP_D8mm x L8.7mm
pins: 1 P, 2 N

## 875115852001
designator C?, comment 10 uF, 63 VDC
WCAP-PSHP Aluminum Polymer Capacitors, D8mm x L8.7mm, 10 uF, 63 VDC; Part Number: 875115852001; Rated Voltage: 63 VDC; Capacitance: 10 uF; ComponentLink1Description: Manufacturer; ComponentLink1URL: http://www.we-online.de; ComponentLink2Description: Datasheet; ComponentLink2URL: http://katalog.we-online.de/pbs/datasheet/875115852001.pdf; Published Date: Dec. 2017; Publisher: Wurth Elektronik; Size: D8mm x L8.7mm; Life Cycle: 2000 h; Operating Temperature: -55 to +105 degC
footprint WCAP-PSHP_D8mm x L8.7mm
pins: 1 P, 2 N

## 875115952001
designator C?, comment 6.8 uF, 100 VDC
WCAP-PSHP Aluminum Polymer Capacitors, D8mm x L8.7mm, 6.8 uF, 100 VDC; Part Number: 875115952001; Rated Voltage: 100 VDC; Capacitance: 6.8 uF; ComponentLink1Description: Manufacturer; ComponentLink1URL: http://www.we-online.de; ComponentLink2Description: Datasheet; ComponentLink2URL: http://katalog.we-online.de/pbs/datasheet/875115952001.pdf; Published Date: Dec. 2017; Publisher: Wurth Elektronik; Size: D8mm x L8.7mm; Life Cycle: 2000 h; Operating Temperature: -55 to +105 degC
footprint WCAP-PSHP_D8mm x L8.7mm
pins: 1 P, 2 N

## 875115957002
designator C?, comment 12 uF, 100 VDC
WCAP-PSHP Aluminum Polymer Capacitors, D10mm x L10.5mm, 12 uF, 100 VDC; Part Number: 875115957002; Rated Voltage: 100 VDC; Capacitance: 12 uF; ComponentLink1Description: Manufacturer; ComponentLink1URL: http://www.we-online.de; ComponentLink2Description: Datasheet; ComponentLink2URL: http://katalog.we-online.de/pbs/datasheet/875115957002.pdf; Published Date: Dec. 2017; Publisher: Wurth Elektronik; Size: D10mm x L10.5mm; Life Cycle: 2000 h; Operating Temperature: -55 to +105 degC
footprint WCAP-PSHP_D10mm x L10.5mm
pins: 1 P, 2 N

## 875116152001
designator C?, comment 10 uF, 80 VDC
WCAP-PSHP Aluminum Polymer Capacitors, D8mm x L8.7mm, 10 uF, 80 VDC; Part Number: 875116152001; Rated Voltage: 80 VDC; Capacitance: 10 uF; ComponentLink1Description: Manufacturer; ComponentLink1URL: http://www.we-online.de; ComponentLink2Description: Datasheet; ComponentLink2URL: http://katalog.we-online.de/pbs/datasheet/875116152001.pdf; Published Date: Dec. 2017; Publisher: Wurth Elektronik; Size: D8mm x L8.7mm; Life Cycle: 2000 h; Operating Temperature: -55 to +105 degC
footprint WCAP-PSHP_D8mm x L8.7mm
pins: 1 P, 2 N

## 875116157002
designator C?, comment 15 uF, 80 VDC
WCAP-PSHP Aluminum Polymer Capacitors, D10mm x L10.5mm, 15 uF, 80 VDC; Part Number: 875116157002; Rated Voltage: 80 VDC; Capacitance: 15 uF; ComponentLink1Description: Manufacturer; ComponentLink1URL: http://www.we-online.de; ComponentLink2Description: Datasheet; ComponentLink2URL: http://katalog.we-online.de/pbs/datasheet/875116157002.pdf; Published Date: Dec. 2017; Publisher: Wurth Elektronik; Size: D10mm x L10.5mm; Life Cycle: 2000 h; Operating Temperature: -55 to +105 degC
footprint WCAP-PSHP_D10mm x L10.5mm
pins: 1 P, 2 N